# Altium schematic symbol library ACROME_Lib.SchLib: 89 symbols (part 2 of 3)
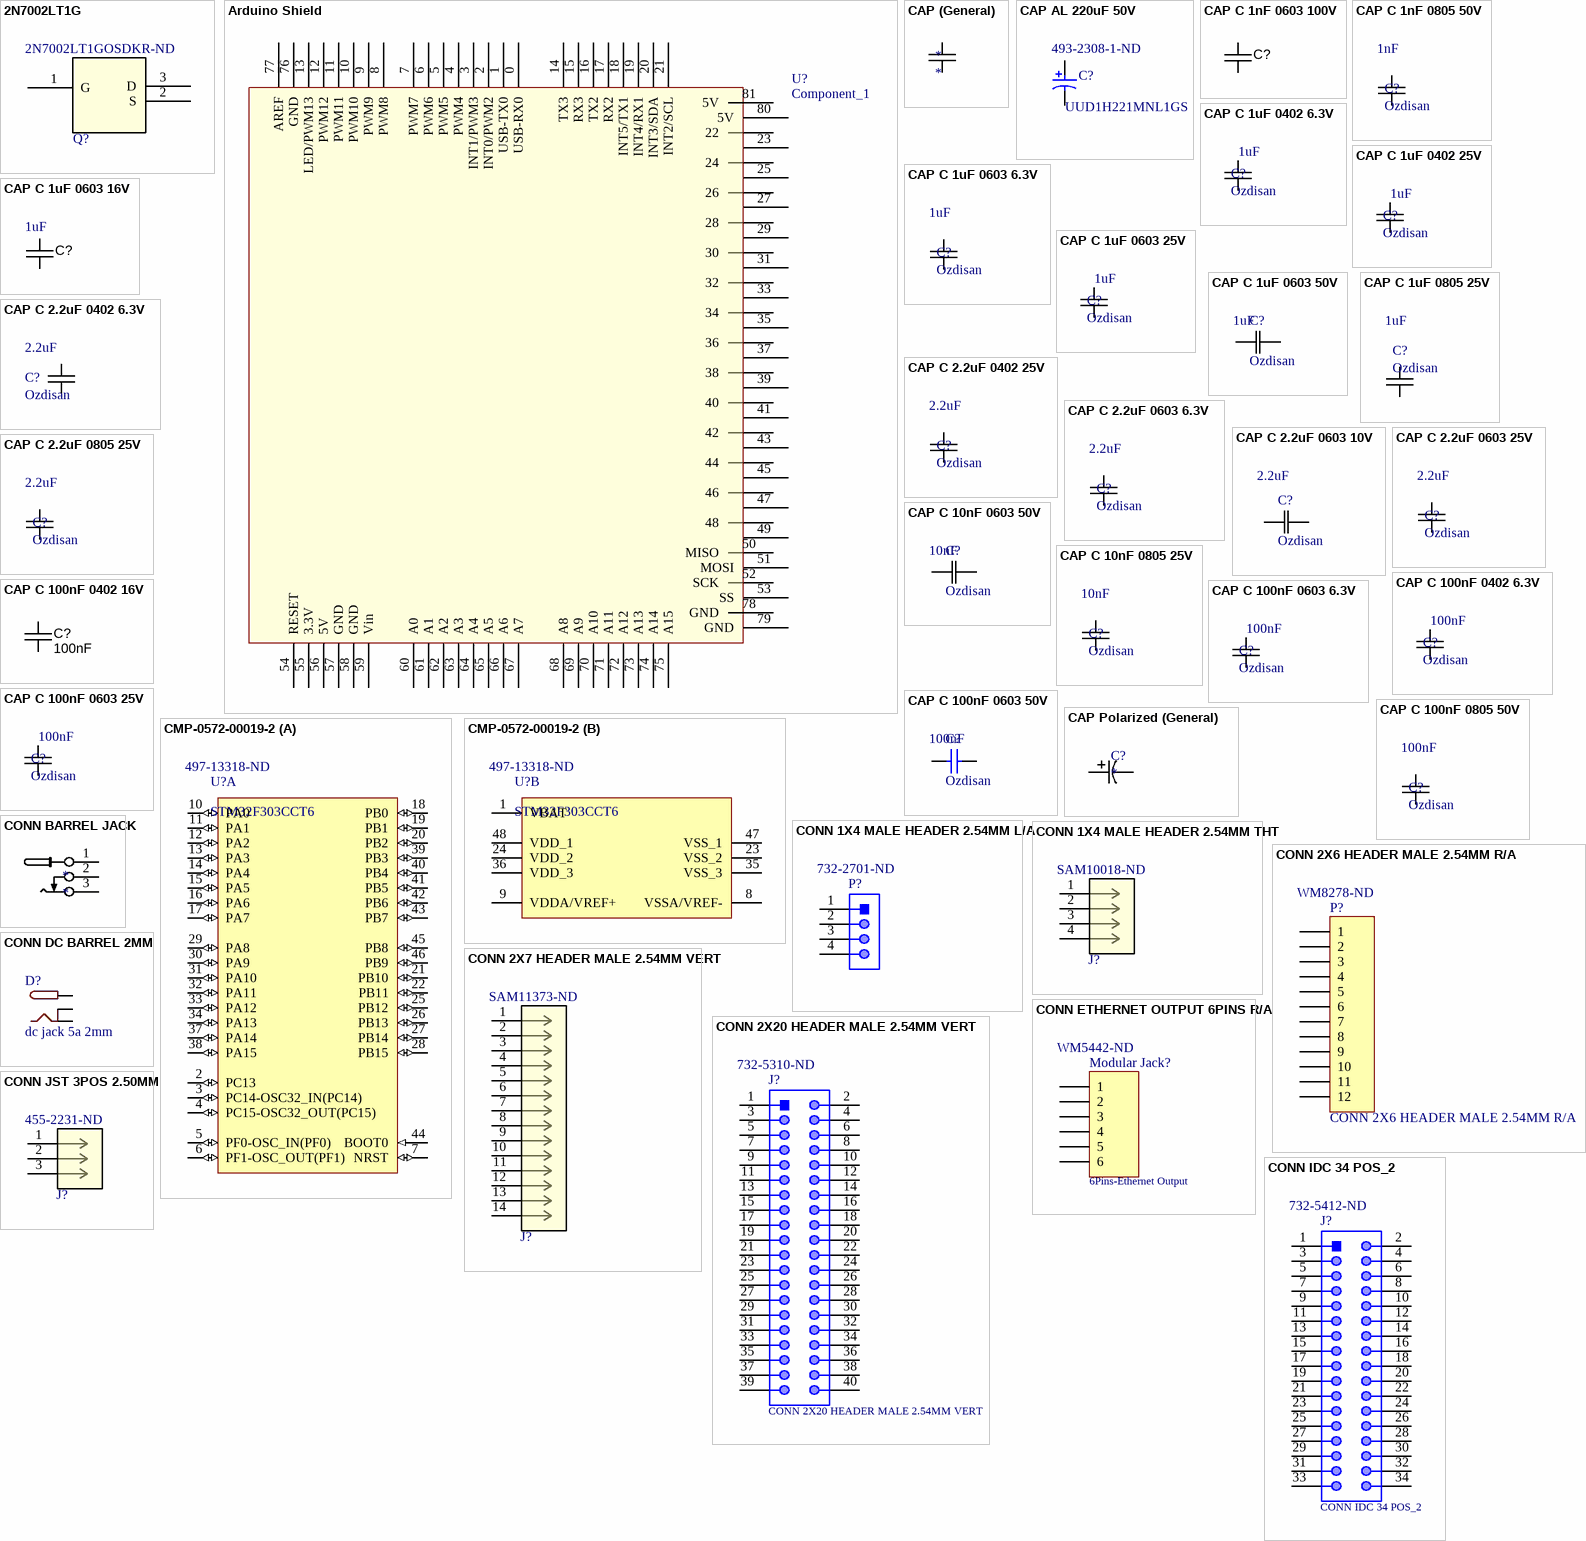
[diagram p3: symbols 2N7002LT1G to CONN JST 3POS 2.50MM]

## CMP-0572-00019-2
designator U?, comment STM32F303CCT6  Supplier Part Number 1: 497-13318-ND
MCU 32-bit STM32F ARM Cortex M4 RISC 256KB Flash 2.5V/3.3V 48-Pin LQFP Tray; Manufacturer: STMicroelectronics; Supply Voltage(Vcc) min (V): 2; Internal RAM Size (kB): 40; D/A Converter: 2x12-bit (2 Channel); FLASH Size (Prog) (kB): 256; I/Os (High Current): 37; Core: ARM Cortex-M4; Operating Frequency(F) (Processor speed) (MHz): 72; Interface: I2C,SPI,USB,CAN,IrDA,UART,USART,LIN,I2S; Frequency: 72MHz; RAM Size: 40KB; Number of Timers/Counters: 10; Oscillator Type: Internal; Number of Programmable I/O: 27; Data Bus Width: 32b; Peripherals: POR,PWM,WDT,DMA; Watchdog Timer: Yes; Max Supply Voltage: 3.6V; Min Supply Voltage: 2V; Number of ADC Channels: 39; Number of SPI Channels: 3; Number of USB Channels: 1; ComponentLink1URL: http://www.st.com/web/en/home.html; Packing: Tray; ComponentLink3Description: Package Specification; ComponentLink2URL: http://www.st.com/st-web-ui/static/active/en/resource/technical/document/datasheet/DM00058181.pdf; Mounting Technology: Surface Mount; PackageReference: LQFP48; DatasheetVersion: Rev. 6; ComponentLink2Description: Datasheet; ComponentLink3URL: http://www.st.com/st-web-ui/static/active/en/resource/technical/document/datasheet/DM00058181.pdf; PackageDescription: 48-Pin Low Profile Quad Flat Package, 7 x 7 mm Body, 0.5 mm Pitch; ComponentLink1Description: Manufacturer URL; PackageVersion: Rev. 6, 06/2013; PartNumber: STM32F303CCT6; Supplier 1: Digi-Key; Manufacturer Part Number: STM32F303CCT6; RoHS: Yes; Category: Microcontrollers; Stock 1: 993; Pricing 1: 1=5,70000, 10=5,11800, 25=4,83840, 100=4,19330, 250=3,97824, 500=3,56966, 1000=3,01056, 2500=2,86003 (USD); Case/Package: LQFP; Number of Pins: 48; Contact Plating: Gold; Min Operating Temperature: -40°C; Max Operating Temperature: 85°C; Number of I/Os: 37; Core Architecture: ARM; Packaging: Tray; Max Frequency: 72MHz; Memory Type: FLASH; Memory Size: 256KB; Package Quantity: 250; Number of I2C Channels: 2; Length: 10mm; Height: 1.45mm; Width: 7.2mm; Radiation Hardening: No; Lead Free: Lead Free; REACH SVHC: No SVHC; ComponentLink4URL: https://datasheet.ciiva.com/14666/0900766b81171360-14666656.pdf?src-supplier=RSComponents; ComponentLink4Description: https://datasheet.ciiva.com/14666/0900766b81171360-14666656.pdf?src-supplier=RSComponents; ComponentLink5URL: https://datasheet.ciiva.com/8055/1831499-8055015.pdf?src-supplier=Element14; ComponentLink5Description: https://datasheet.ciiva.com/8055/1831499-8055015.pdf?src-supplier=Element14
footprint STM-LQFP48_L (QFP, 48-Leads, Body 7x7mm, Pitch 0.5mm, IPC High Density)
footprint STM-LQFP48_N (QFP, 48-Leads, Body 7x7mm, Pitch 0.5mm, IPC Medium Density)
footprint STM-LQFP48_M (QFP, 48-Leads, Body 7x7mm, Pitch 0.5mm, IPC Low Density)
part A pins: 2 PC13 (io) "PC13/TIM1_CH1N/WKUP2,RTC_TAMP1,RTC_TS,RTC_OUT", 3 PC14-OSC32_IN(PC14) (io) "PC14-OSC32_IN(PC14)/OSC32_IN", 4 PC15-OSC32_OUT(PC15) (io) "PC15-OSC32_OUT(PC15)/OSC32_OUT", 5 PF0-OSC_IN(PF0) (io) "PF0-OSC_IN(PF0)/TIM1_CH3N,I2C2_SDA/OSC_IN", 6 PF1-OSC_OUT(PF1) (io) "PF1-OSC_OUT(PF1)/I2C2_SCL/OSC_OUT", 7 NRST (io) "Device reset input / internal reset output (active low)", 10 PA0 (io) "PA0/USART2_CTS,TIM2_CH1_ETR,TIM8_BKIN,TIM8_ETR,TSC_G1_IO1,COMP1_OUT,EVENTOUT/ADC1_IN1,COMP1_INM,RTC_TAMP2,WKUP1,COMP7_INP", 11 PA1 (io) "PA1/USART2_RTS,TIM2_CH2,TSC_G1_IO2,TIM15_CH1N,RTC_REFIN,EVENTOUT/ADC1_IN2,COMP1_INP,OPAMP1_VINP,OPAMP3_VINP", 12 PA2 (io) "PA2/USART2_TX,TIM2_CH3,TIM15_CH1,TSC_G1_IO3,COMP2_OUT,EVENTOUT/ADC1_IN3,COMP2_INM,OPAMP1_VOUT", 13 PA3 (io) "PA3/USART2_RX,TIM2_CH4,TIM15_CH2,TSC_G1_IO4,EVENTOUT/ADC1_IN4,OPAMP1_VINP,COMP2_INP,OPAMP1_VINM", 14 PA4 (io) "PA4/SPI1_NSS,SPI3_NSS,I2S3_WS,USART2_CK,TSC_G2_IO1,TIM3_CH2,EVENTOUT/ADC2_IN1,DAC1_OUT1,OPAMP4_VINP,COMP1_INM,COMP2_INM,COMP3_INM,COMP4_INM,COMP5_INM,COMP6_INM,COMP7_INM", 15 PA5 (io) "PA5/SPI1_SCK,TIM2_CH1_ETR,TSC_G2_IO2,EVENTOUT/ADC2_IN2,DAC1_OUT2,OPAMP1_VINP,OPAMP2_VINM,OPAMP3_VINP,COMP1_INM,COMP2_INM,COMP3_INM,COMP4_INM,COMP5_INM,COMP6_INM,COMP7_INM", 16 PA6 (io) "PA6/SPI1_MISO,TIM3_CH1,TIM8_BKIN,TIM1_BKIN,TIM16_CH1,COMP1_OUT,TSC_G2_IO3,EVENTOUT/ADC2_IN3,OPAMP2_VOUT", 17 PA7 (io) "PA7/SPI1_MOSI,TIM3_CH2,TIM17_CH1,TIM1_CH1N,TIM8_CH1N,TSC_G2_IO4,COMP2_OUT,EVENTOUT/ADC2_IN4,COMP2_INP,OPAMP2_VINP,OPAMP1_VINP", 18 PB0 (io) "PB0/TIM3_CH3,TIM1_CH2N,TIM8_CH2N,TSC_G3_IO2,EVENTOUT/ADC3_IN12,COMP4_INP,OPAMP3_VINP,OPAMP2_VINP", 19 PB1 (io) "PB1/TIM3_CH4,TIM1_CH3N,TIM8_CH3N,COMP4_OUT,TSC_G3_IO3,EVENTOUT/ADC3_IN1,OPAMP3_VOUT", 20 PB2 (io) "PB2/TSC_G3_IO4,EVENTOUT/ADC2_IN12,COMP4_INM,OPAMP3_VINM", 21 PB10 (io) "PB10/USART3_TX,TIM2_CH3,TSC_SYNC,EVENTOUT/COMP5_INM,OPAMP4_VINM,OPAMP3_VINM", 22 PB11 (io) "PB11/USART3_RX,TIM2_CH4,TSC_G6_IO1,EVENTOUT/COMP6_INP,OPAMP4_VINP", 25 PB12 (io) "PB12/SPI2_NSS,I2S2_WS,I2C2_SMBA,USART3_CK,TIM1_BKIN,TSC_G6_IO2,EVENTOUT/ADC4_IN3,COMP3_INM,OPAMP4_VOUT", 26 PB13 (io) "PB13/SPI2_SCK,I2S2_CK,USART3_CTS,TIM1_CH1N,TSC_G6_IO3,EVENTOUT/ADC3_IN5,COMP5_INP,OPAMP4_VINP,OPAMP3_VINP", 27 PB14 (io) "PB14/SPI2_MISO,I2S2ext_SD,USART3_RTS,TIM1_CH2N,TIM15_CH1,TSC_G6_IO4,EVENTOUT/COMP3_INP,ADC4_IN4,OPAMP2_VINP", 28 PB15 (io) "PB15/SPI2_MOSI,I2S2_SD,TIM1_CH3N,RTC_REFIN,TIM15_CH1N,TIM15_CH2,EVENTOUT/ADC4_IN5,COMP6_INM", 29 PA8 (io) "PA8/I2C2_SMBA,I2S2_MCK,USART1_CK,TIM1_CH1,TIM4_ETR,MCO,COMP3_OUT,EVENTOUT", 30 PA9 (io) "PA9/I2C2_SCL,I2S3_MCK,USART1_TX,TIM1_CH2,TIM2_CH3,TIM15_BKIN,TSC_G4_IO1,COMP5_OUT,EVENTOUT", 31 PA10 (io) "PA10/I2C2_SDA,USART1_RX,TIM1_CH3,TIM2_CH4,TIM8_BKIN,TIM17_BKIN,TSC_G4_IO2,COMP6_OUT,EVENTOUT", 32 PA11 (io) "PA11/USART1_CTS,USB_DM,CAN_RX,TIM1_CH1N,TIM1_CH4,TIM1_BKIN2,TIM4_CH1,COMP1_OUT,EVENTOUT", 33 PA12 (io) "PA12/USART1_RTS,USB_DP,CAN_TX,TIM1_CH2N,TIM1_ETR,TIM4_CH2,TIM16_CH1,COMP2_OUT,EVENTOUT", 34 PA13 (io) "PA13/USART3_CTS,TIM4_CH3,TIM16_CH1N,TSC_G4_IO3,IR_OUT,SWDIO-JTMS,EVENTOUT", 37 PA14 (io) "PA14/I2C1_SDA,USART2_TX,TIM8_CH2,TIM1_BKIN,TSC_G4_IO4,SWCLK-JTCK,EVENTOUT", 38 PA15 (io) "PA15/I2C1_SCL,SPI1_NSS,SPI3_NSS,I2S3_WS,JTDI,USART2_RX,TIM1_BKIN,TIM2_CH1_ETR,TIM8_CH1,EVENTOUT", 39 PB3 (io) "PB3/SPI3_SCK,I2S3_CK,SPI1_SCK,USART2_TX,TIM2_CH2,TIM3_ETR,TIM4_ETR,TIM8_CH1N,TSC_G5_IO1,JTDO-TRACESWO,EVENTOUT", 40 PB4 (io) "PB4/SPI3_MISO,I2S3ext_SD,SPI1_MISO,USART2_RX,TIM3_CH1,TIM16_CH1,TIM17_BKIN,TIM8_CH2N,TSC_G5_IO2,NJTRST,EVENTOUT", 41 PB5 (io) "PB5/SPI3_MOSI,SPI1_MOSI,I2S3_SD,I2C1_SMBA,USART2_CK,TIM16_BKIN,TIM3_CH2,TIM8_CH3N,TIM17_CH1,EVENTOUT", 42 PB6 (io) "PB6/I2C1_SCL,USART1_TX,TIM16_CH1N,TIM4_CH1,TIM8_CH1,TSC_G5_IO3,TIM8_ETR,TIM8_BKIN2,EVENTOUT", 43 PB7 (io) "PB7/I2C1_SDA,USART1_RX,TIM3_CH4,TIM4_CH2,TIM17_CH1N,TIM8_BKIN,TSC_G5_IO4,EVENTOUT", 44 BOOT0 (in) "Boot memory selection", 45 PB8 (io) "PB8/I2C1_SCL,CAN_RX,TIM16_CH1,TIM4_CH3,TIM8_CH2,TIM1_BKIN,TSC_SYNC,COMP1_OUT,EVENTOUT", 46 PB9 (io) "PB9/I2C1_SDA,CAN_TX,TIM17_CH1,TIM4_CH4,TIM8_CH3,IR_OUT,COMP2_OUT,EVENTOUT"
part B pins: 1 VBAT (power) "Backup power supply", 8 VSSA/VREF- (power) "Analog ground/Negative reference voltage", 9 VDDA/VREF+ (power) "Analog power supply/Positive reference voltage", 23 VSS_2 (power) "Digital power supply", 24 VDD_2 (power) "Digital power supply", 35 VSS_3 (power) "Ground", 36 VDD_3 (power) "Digital power supply", 47 VSS_1 (power) "Ground", 48 VDD_1 (power) "Digital power supply"

## CONN 1X4 MALE HEADER 2.54MM L/A
designator P?  Supplier Part Number 1: 732-2701-ND  (hidden comment: CONN 1X4 MALE HEADER 2.54MM L/A)
Connector Header Through Hole, Left Angle 4 position 0.098" (2.54mm); Part Number: 61900411021; Manufacturer: Wurth Elektronik; Working Voltage: 250VAC; Contact Resistance: 20mOhm; Number of Positions: 4; Insulation: Insulated; Insulation Resistance: 1GR; Current Rating: 3A; Voltage Rating: 250V; Connector Type: Male Pin; Position: 1x4; Operating Temperature: -40to105degC; Orientation: RightAngled; Packaging: Bag; Datasheet URL: https://katalog.we-online.de/em/datasheet/6190xx11021.pdf; Package Reference: 61900411021; Publisher: WurthElektronik; Mounting Technology: THT; Manufacturer URL: http://www.we-online.de; Pitch: 2.54mm; Gender: Male; Supplier 1: Digi-Key; Manufacturer Part Number: 61900411021; RoHS: Yes; Category: Headers and Wire Housings; Stock 1: 280; Pricing 1: 1=0,88000, 10=0,76200, 50=0,69400, 100=0,56000, 500=0,51500, 1000=0,47000 (USD); Mount: Through Hole; Color: Beige; Contact Plating: Tin; Contact Material: Copper Alloy,Copper; Housing Material: Nylon; Min Operating Temperature: -40°C; Max Operating Temperature: 105°C; Termination: Through Hole; Package Quantity: 1000; Number of Rows: 1; Fastening Type: Friction; Contact Gender: Male; Number of Contacts: 4; Length: 10.16mm; Height: 3.3mm; Contact Mating Length: 0.3inch; Width: 10.2mm; REACH SVHC: Unknown; Flammability Rating: UL94 V-0; ComponentLink1URL: https://datasheet.ciiva.com/738/6190xx11021-738580.pdf?src-supplier=Digi-Key; ComponentLink1Description: https://datasheet.ciiva.com/738/6190xx11021-738580.pdf?src-supplier=Digi-Key; ComponentLink2URL: https://datasheet.ciiva.com/48700/001088231-da-01-en-wr-wtb-2-54mm-61900411021-48700570.pdf?src-supplier=Conrad; ComponentLink2Description: https://datasheet.ciiva.com/48700/001088231-da-01-en-wr-wtb-2-54mm-61900411021-48700570.pdf?src-supplier=Conrad
footprint 61900411021 (2.54mm Male Left Angled Header Bottom Locking, 4p)
pins: 1, 2, 3, 4

## CONN 1X4 MALE HEADER 2.54MM THT
designator J?  Supplier Part Number 1: SAM10018-ND  (hidden comment: CONN 1X4 MALE HEADER 2.54MM THT)
Connector Header Through Hole, Vertical 4 position 0.098" (2.54mm); Manufacturer_Part_Number: SSW-104-01-F-S; Manufacturer: Samtec; Vendor: Samtec Inc; Built_By: EMA_UL_Team; Number of Contacts: 4; Gender: Female; Max Current Rating: 6.9A; Contact Resistance: 10mR; Max Voltage Rating (AC): 550V; Mating Cycles: 100; Copyright: Copyright (C) 2018 Accelerated Designs. All rights reserved; RefDes: RefDes; Type: DEV; Value: Value; Supplier 1: Digi-Key; Manufacturer Part Number: SSW-104-01-F-S; RoHS: Yes; Category: Headers and Wire Housings; Stock 1: 984; Pricing 1: 1=0,74000, 10=0,65300, 100=0,56320, 500=0,46080, 1000=0,40960, 5000=0,35840, 10000=0,34048 (USD); Contact Plating: Gold; Color: Black; Contact Material: Bronze; Housing Material: Polymer; Housing Color: Black; Min Operating Temperature: -55°C; Max Operating Temperature: 125°C; Number of Rows: 1; Termination: Solder; Packaging: Bulk; Orientation: Straight; Length: 10.67mm; Pitch: 2.54mm; Depth: 2.41mm; Radiation Hardening: No; ComponentLink1URL: http://components.arrow.com/part/dataview/0323_00788230?src-supplier=Arrow+Europe; ComponentLink1Description: http://components.arrow.com/part/dataview/0323_00788230?src-supplier=Arrow+Europe; ComponentLink2URL: ftp://ftp.samtec.com/webfiles/PDF/SSQ_TH.PDF?src-supplier=Avnet+Europe; ComponentLink2Description: ftp://ftp.samtec.com/webfiles/PDF/SSQ_TH.PDF?src-supplier=Avnet+Europe; ComponentLink3URL: ftp://ftp.samtec.com/webfiles/PDF/SSQ_TH.PDF?src-supplier=Avnet; ComponentLink3Description: ftp://ftp.samtec.com/webfiles/PDF/SSQ_TH.PDF?src-supplier=Avnet; ComponentLink4URL: http://suddendocs.samtec.com/catalog_english/ssw_th.pdf?src-supplier=Digi-Key; ComponentLink4Description: http://suddendocs.samtec.com/catalog_english/ssw_th.pdf?src-supplier=Digi-Key
footprint CON4_1X4_TU_SSQ
pins: 1, 2, 3, 4

## CONN 2X6 HEADER MALE 2.54MM R/A
designator P?  Supplier Part Number 1: WM8278-ND
Connector Shrouded Header Through Hole, Right Angle 12 position 0.098" (2.54mm); Manufacturer: Molex; Manufacturer Part Number: 0901303212; Number of Positions: 12; Max Voltage Rating (AC): 350V; Connector Type: Male Pin; Row Spacing: 0.1inch; LatestRevisionDate: 17-Jul-2002; LatestRevisionNote: Re-released for DXP Platform.; Publisher: Altium Limited; Supplier 1: Digi-Key; RoHS: Yes; Category: Headers and Wire Housings; Stock 1: 1440; Pricing 1: 1=3,79000, 10=3,63900, 100=3,03260, 500=2,57772, 1000=2,19864, 5000=1,97119 (USD); Mount: Through Hole; Housing Material: Polyester; Contact Material: Brass; Color: Black; Contact Plating: Gold; Housing Color: Black; Min Operating Temperature: -55°C; Max Operating Temperature: 125°C; Packaging: Tray; Number of Rows: 2; Orientation: Right Angle; Termination: Solder; Max Voltage Rating (DC): 350V; Number of Contacts: 12; Fastening Type: Latch; Length: 17.96mm; Pitch: 2.54mm; Depth: 9.75mm; Contact Mating Length: 0.266inch; ComponentLink1URL: https://datasheet.ciiva.com/6813/901301114-sd-6813987.pdf?src-supplier=Digi-Key; ComponentLink1Description: https://datasheet.ciiva.com/6813/901301114-sd-6813987.pdf?src-supplier=Digi-Key; ComponentLink2URL: https://datasheet.ciiva.com/3936/300140901303212-pcb-headers-3936224.pdf?src-supplier=Arrow; ComponentLink2Description: https://datasheet.ciiva.com/3936/300140901303212-pcb-headers-3936224.pdf?src-supplier=Arrow
footprint 12 PIN IDC
pins: 1, 2, 3, 4, 5, 6, 7, 8, 9, 10, 11, 12

## CONN 2X7 HEADER MALE 2.54MM VERT
designator J?  Supplier Part Number 1: SAM11373-ND  (hidden comment: CONN 2X7 HEADER MALE 2.54MM VERT)
Connector Header Through Hole, Vertical 14 position 0.098" (2.54mm); Manufacturer_Part_Number: HTSW-107-07-T-D; Manufacturer: Samtec; Vendor: Samtec Inc; Built_By: EMA_UL_Team; Number of Contacts: 14; Max Current Rating: 7.6A; Max Voltage Rating (AC): 550V; Copyright: Copyright (C) 2018 Accelerated Designs. All rights reserved; RefDes: RefDes; Type: DEV; Value: Value; Supplier 1: Digi-Key; Manufacturer Part Number: HTSW-107-07-T-D; RoHS: Yes; Category: Headers and Wire Housings; Stock 1: 1699; Pricing 1: 1=0,86000, 10=0,75500, 100=0,65120, 500=0,53280, 1000=0,47360, 5000=0,41440, 10000=0,39368 (USD); Contact Plating: Tin; Contact Material: Bronze; Housing Color: Natural; Housing Material: Polymer; Min Operating Temperature: -55°C; Max Operating Temperature: 105°C; Gender: Male; Number of Rows: 2; Termination: Solder; Packaging: Bulk; Orientation: Straight; Length: 17.78mm; Pitch: 2.54mm; Depth: 5.02mm; REACH SVHC: No SVHC; ComponentLink1URL: http://components.arrow.com/part/dataview/0323_01322925?src-supplier=Arrow+Europe; ComponentLink1Description: http://components.arrow.com/part/dataview/0323_01322925?src-supplier=Arrow+Europe; ComponentLink2URL: http://www.farnell.com/datasheets/1992055.pdf?src-supplier=Farnell; ComponentLink2Description: http://www.farnell.com/datasheets/1992055.pdf?src-supplier=Farnell; ComponentLink3URL: http://suddendocs.samtec.com/prints/htsw-xxx-xx-xxx-x-xx-xx-xx-mkt.pdf?src-supplier=Digi-Key; ComponentLink3Description: http://suddendocs.samtec.com/prints/htsw-xxx-xx-xxx-x-xx-xx-xx-mkt.pdf?src-supplier=Digi-Key; ComponentLink4URL: https://www.samtec.com/ftppub/pdf/htsw_th.pdf?src-supplier=Avnet; ComponentLink4Description: https://www.samtec.com/ftppub/pdf/htsw_th.pdf?src-supplier=Avnet
footprint CON14_2X7_TU_TSW
pins: 1, 2, 3, 4, 5, 6, 7, 8, 9, 10, 11, 12, 13, 14

## CONN 2X20 HEADER MALE 2.54MM VERT
designator J?  Supplier Part Number 1: 732-5310-ND
Connector Header Through Hole, Vertical 40 position 0.098" (2.54mm); Manufacturer: Wurth Elektronik; Part Number: 61304021121; Contact Resistance: 20mOhm; Row Number: Dual; Pin Number: 40; Withstanding Voltage: 500VAC; Rated Current: 3A; Working Voltage: 250VAC; Connector Type: Male Pin; Row Spacing: 0.1inch; Operating Temperature: -40to105degC; Manufacturer URL: http://www.we-online.de; Orientation: Vertical; Pitch: 2.54mm; Datasheet URL: https://katalog.we-online.de/em/datasheet/6130xx21121.pdf; Package Reference: 61304021121; Gender: Male; Packaging: Bag; Mounting Technology: THT; Publisher: WurthElektronik; Supplier 1: Digi-Key; Manufacturer Part Number: 61304021121; RoHS: Yes; Category: Connectors; Mount: Through Hole; Color: Black; Contact Plating: Gold; Contact Material: Copper; Number of Positions: 40; Termination: Solder; Number of Contacts: 40; Number of Rows: 2; Contact Mating Length: 0.236inch; REACH SVHC: Unknown; ComponentLink1URL: http://www.farnell.com/datasheets/1442180.pdf?src-supplier=Farnell; ComponentLink1Description: http://www.farnell.com/datasheets/1442180.pdf?src-supplier=Farnell; ComponentLink2URL: http://www.farnell.com/datasheets/1442180.pdf?src-supplier=Element14; ComponentLink2Description: http://www.farnell.com/datasheets/1442180.pdf?src-supplier=Element14; ComponentLink3URL: http://www.farnell.com/datasheets/1442180.pdf?src-supplier=Newark; ComponentLink3Description: http://www.farnell.com/datasheets/1442180.pdf?src-supplier=Newark; ComponentLink4URL: https://katalog.we-online.de/em/datasheet/6130xx21121.pdf?src-supplier=Digi-Key; ComponentLink4Description: https://katalog.we-online.de/em/datasheet/6130xx21121.pdf?src-supplier=Digi-Key
footprint 61304021121
pins: 1, 2, 3, 4, 5, 6, 7, 8, 9, 10, 11, 12, 13, 14, 15, 16, 17, 18, 19, 20, 21, 22, 23, 24, 25, 26, 27, 28, 29, 30, 31, 32, 33, 34, 35, 36, 37, 38, 39, 40

## CONN BARREL JACK
designator *
footprint Barrel_Jack
pins: 1 POS, 2 NC, 3 NEG

## CONN DC BARREL 2MM
designator D?, comment dc jack 5a 2mm
footprint dcbarel (https://www.cui.com/product/resource/3dmodel/pj-102bh)
pins: 1 PWR, 2, 3

## CONN ETHERNET OUTPUT 6PINS R/A
designator Modular Jack?, comment 6Pins-Ethernet Output  Supplier Part Number 1: WM5442-ND
Connector Mod Jack RJ11 6P6C R/A Unshielded; Manufacturer: Molex; Manufacturer Part Number: 43202-6101; Number of Ports: 1; Number of Contacts: 6; Contact Resistance: 10mR; Voltage Rating (DC): 125V; Gender: Female; Current Rating: 1.5A; Pitch: 2.54mm; Supplier 1: Digi-Key; RoHS: Yes; Category: Modular / Ethernet Connectors; Mount: Through Hole; Housing Color: Black; Housing Material: Thermoplastic; Contact Plating: Gold; Contact Material: Bronze; Number of Terminals: 6; Color: Black; Min Operating Temperature: -40°C; Max Operating Temperature: 85°C; Orientation: Right Angle; Termination: Through Hole; Number of Positions Loaded: 6; Shielding: Unshielded; Packaging: Tray; Package Quantity: 2000; Number of Positions: 6; Voltage Rating: 125V; Max Current Rating: 1.5A; Length: 13.21mm; Height: 11.58mm; Depth: 18.03mm; Lead Free: Lead Free; Flammability Rating: UL94 V-0; REACH SVHC: Unknown; ComponentLink1URL: https://datasheet.ciiva.com/16076/3300432026101-modular-jacks-plug-16076817.pdf?src-supplier=Onlinecomponents.com; ComponentLink1Description: https://datasheet.ciiva.com/16076/3300432026101-modular-jacks-plug-16076817.pdf?src-supplier=Onlinecomponents.com; ComponentLink2URL: https://datasheet.ciiva.com/4561/0432026101-modular-jacks-plug-168329-4561604.pdf?src-supplier=Mouser; ComponentLink2Description: https://datasheet.ciiva.com/4561/0432026101-modular-jacks-plug-168329-4561604.pdf?src-supplier=Mouser; ComponentLink3URL: https://datasheet.ciiva.com/19460/1970615-19460580.pdf?src-supplier=Jameco; ComponentLink3Description: https://datasheet.ciiva.com/19460/1970615-19460580.pdf?src-supplier=Jameco; ComponentLink4URL: https://datasheet.ciiva.com/19472/2036891-19472756.pdf?src-supplier=Jameco; ComponentLink4Description: https://datasheet.ciiva.com/19472/2036891-19472756.pdf?src-supplier=Jameco; ComponentLink5URL: https://datasheet.ciiva.com/1108/1627460-1108119.pdf?src-supplier=Newark; ComponentLink5Description: https://datasheet.ciiva.com/1108/1627460-1108119.pdf?src-supplier=Newark; ComponentLink6URL: https://datasheet.ciiva.com/30074/122810432026101-modular-jacks-plug-30074217.pdf?src-supplier=Onlinecomponents.com; ComponentLink6Description: https://datasheet.ciiva.com/30074/122810432026101-modular-jacks-plug-30074217.pdf?src-supplier=Onlinecomponents.com; ComponentLink7URL: https://datasheet.ciiva.com/26945/getdatasheetpartid-791591-26945340.pdf?src-supplier=Verical; ComponentLink7Description: https://datasheet.ciiva.com/26945/getdatasheetpartid-791591-26945340.pdf?src-supplier=Verical; ComponentLink8URL: https://datasheet.ciiva.com/1107/1870040-1107453.pdf?src-supplier=Element14; ComponentLink8Description: https://datasheet.ciiva.com/1107/1870040-1107453.pdf?src-supplier=Element14
footprint 1PortRJ11
pins: 1, 2, 3, 4, 5, 6

## CONN IDC 34 POS_2
designator J?  Supplier Part Number 1: 732-5412-ND
Connector Shrouded Header Through Hole, Right Angle 34 position 0.098" (2.54mm); Manufacturer: Wurth Elektronik; Part Number: 61203421721; Pin Number: 34; Working Voltage: 250VAC; Withstanding Voltage: 500VAC; Contact Resistance: 20mOhm; Gender: Male; Connector Type: Male Pin; Row Spacing: 0.1inch; Published Date: August2018; Datasheet URL: https://katalog.we-online.de/em/datasheet/6120xx21721.pdf; Packaging: Tray; Mounting Technology: THT; Publisher: WurthElektronik; Orientation: Angled; Manufacturer URL: http://www.we-online.de; Pitch: 2.54mm; Operating Temperature: -40to125degC; Package Reference: 61203421721; Supplier 1: Digi-Key; Manufacturer Part Number: 61203421721; RoHS: Yes; Category: Connectors; Pricing 1: 100=1,38300 (USD); Mount: Through Hole; Contact Plating: Gold; Contact Material: Copper; Color: Black; Number of Contacts: 34; Number of Rows: 2; Number of Positions: 34; Termination: Solder; REACH SVHC: Unknown; ComponentLink1URL: https://katalog.we-online.de/em/datasheet/6120xx21721.pdf?src-supplier=Digi-Key; ComponentLink1Description: https://katalog.we-online.de/em/datasheet/6120xx21721.pdf?src-supplier=Digi-Key
footprint 61203421721 (34 pins, right angled, gold plating)
pins: 1, 2, 3, 4, 5, 6, 7, 8, 9, 10, 11, 12, 13, 14, 15, 16, 17, 18, 19, 20, 21, 22, 23, 24, 25, 26, 27, 28, 29, 30, 31, 32, 33, 34

## CONN JST 3POS 2.50MM
designator J?, comment Supplier Part Number 1: 455-2231-ND  (hidden comment: JST 3POS 2.50MM)
Connector Header Through Hole, Right Angle 3 position 0.098" (2.50mm); Manufacturer_Part_Number: B3B-XH-AM(LF)(SN); Built_By: EMA_Cory; Number of Positions: 3; Connector Type: Male Pin; Gender: Male; Contact Resistance: 20mR; Max Current Rating: 3A; Max Voltage Rating (AC): 250V; Pitch: 0.098inch; Vendor: JST; Copyright: Copyright (C) 2018 Accelerated Designs. All rights reserved; RefDes: RefDes; Type: DEV; Value: Value; Supplier 1: Digi-Key; Manufacturer: JST; Manufacturer Part Number: B3B-XH-AM(LF)(SN); RoHS: Yes; Category: Headers and Wire Housings; Mount: Through Hole; Contact Plating: Tin,Copper,Lead; Color: Natural; Contact Material: Brass; Housing Color: White; Housing Material: Polyamide; Min Operating Temperature: -25°C; Max Operating Temperature: 85°C; Number of Rows: 1; Packaging: Bulk; Termination: Press-Fit; Orientation: Straight; Fastening Type: Detent; Length: 9.9mm; Depth: 5.75mm; Lead Free: Lead Free; ComponentLink1URL: https://datasheet.ciiva.com/26894/getdatasheetpartid-639773-26894456.pdf?src-supplier=Verical; ComponentLink1Description: https://datasheet.ciiva.com/26894/getdatasheetpartid-639773-26894456.pdf?src-supplier=Verical
footprint CONN_B3B-XH-AM(L
pins: 1, 2, 3

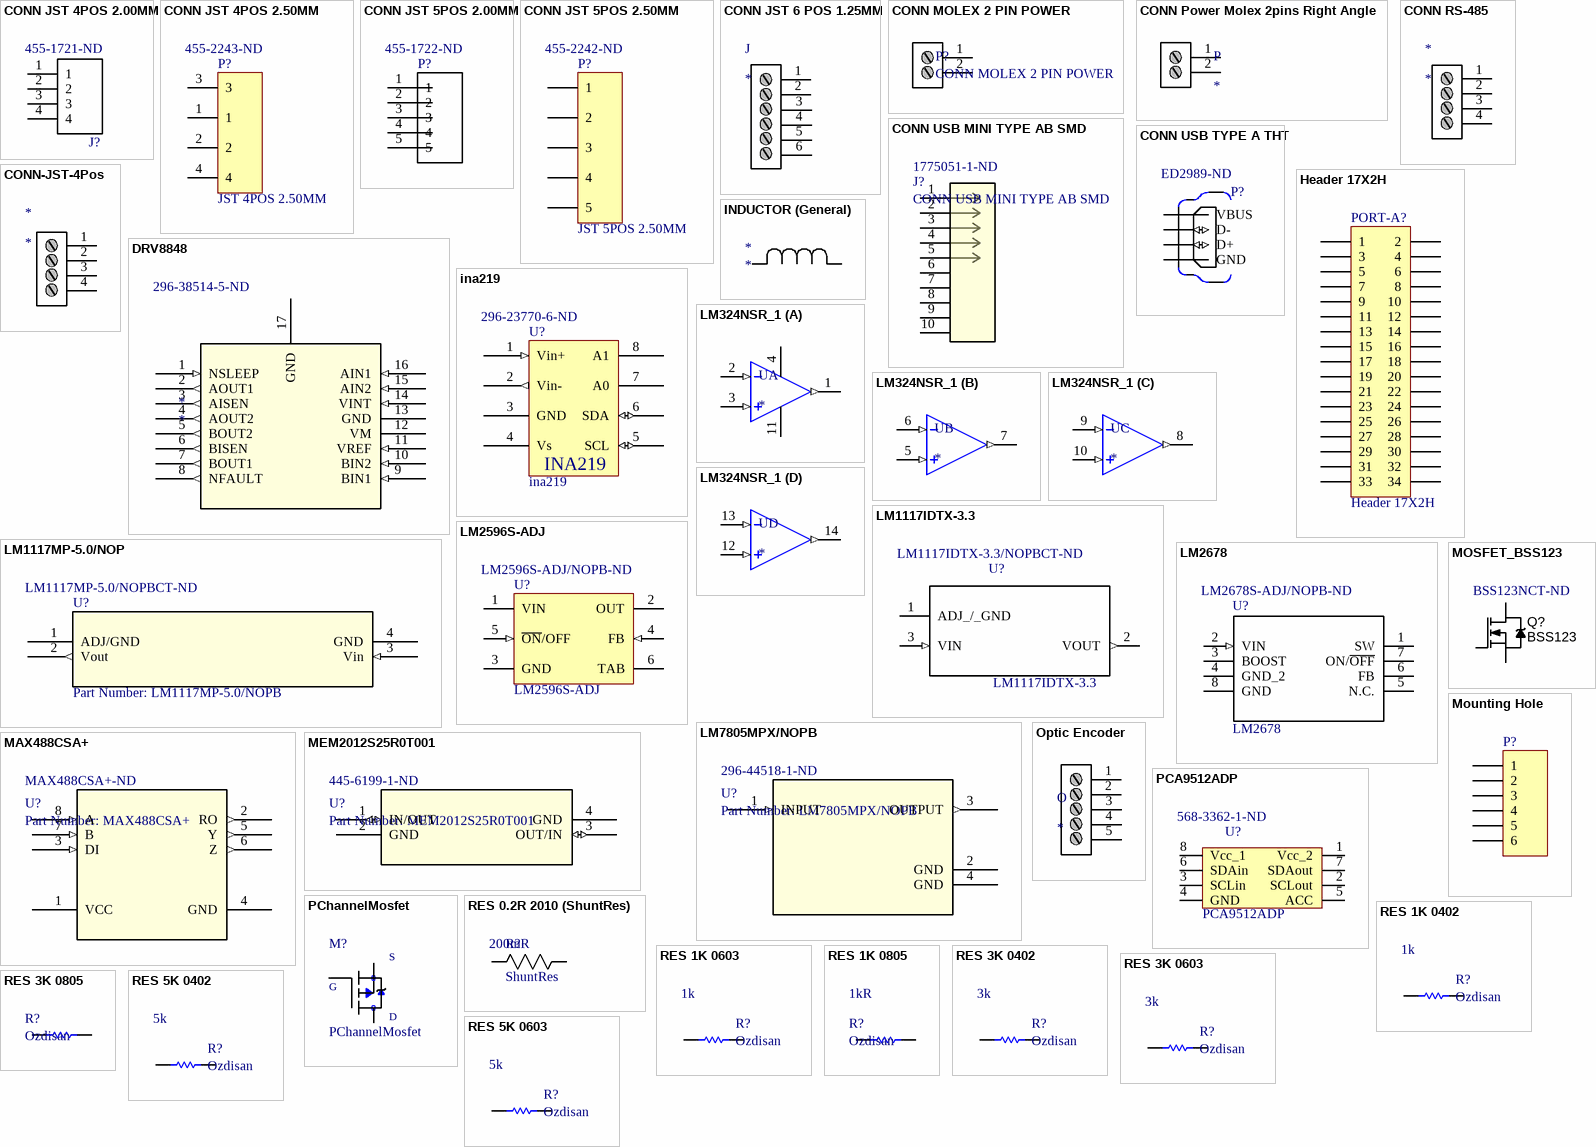
[diagram p1: symbols CONN JST 4POS 2.00MM to RES 5K 0603]

## CONN JST 4POS 2.00MM
designator J?, comment Supplier Part Number 1: 455-1721-ND  (hidden comment: JST 4pos 2.00mm)
Connector Header Through Hole, Right Angle 4 position 0.098" (2.00mm); Manufacturer Part Number: S4B-PH-K-S(LF)(SN); MP: S4B-PH-K-S_LF__SN_; MF: JST Sales; Current Rating: 2A; Number of Positions: 4; Insulation Resistance: 1GR; Connector Type: Male Pin; Working Voltage: 100V; Gender: Male; Contact Resistance: 10mR; Pitch: 2mm; Digi-Key_Purchase_URL: https://www.digikey.com/product-detail/en/jst-sales-america-inc/S4B-PH-K-S_LF__SN_/455-1721-ND/926628?utm_source=snapeda&utm_medium=aggregator&utm_campaign=symbol; Package: None; SnapEDA_Link: https://www.snapeda.com/parts/S4B-PH-K-S%28LF%29%28SN%29/JST%20Sales%20America%20Inc./view-part/591324/?ref=snap; Digi-Key_Part_Number: 455-1721-ND; Value: *; Supplier 1: Digi-Key; Manufacturer: JST; RoHS: Yes; Category: Headers and Wire Housings; Mount: Through Hole; Number of Pins: 4; Contact Material: Tin,Brass,Bronze; Housing Color: Natural; Contact Plating: Tin; Color: Natural,White; Min Operating Temperature: -25°C; Max Operating Temperature: 85°C; Orientation: Right Angle; Termination: Solder; Fastening Type: Detent; Number of Contacts: 4; Number of Poles: 4; Number of Rows: 1; Voltage Rating (AC): 100V; Voltage Rating: 100V; Packaging: Bulk; Length: 9.9mm; Height: 9.4mm; Width: 4.5mm; Contact Mating Length: 0.13inch; Lead Pitch: 2mm; Flammability Rating: UL94 V-0; REACH SVHC: No SVHC; Lead Free: Lead Free; ComponentLink1URL: https://datasheet.ciiva.com/11747/0900766b8082653c-11747869.pdf?src-supplier=RSComponents; ComponentLink1Description: https://datasheet.ciiva.com/11747/0900766b8082653c-11747869.pdf?src-supplier=RSComponents; ComponentLink2URL: https://datasheet.ciiva.com/712/eph-712478.pdf?src-supplier=Digi-Key; ComponentLink2Description: https://datasheet.ciiva.com/712/eph-712478.pdf?src-supplier=Digi-Key
footprint *JST_S4B-PH-K-S(LF)(SN)
pins: 1, 2, 3, 4

## CONN JST 4POS 2.50MM
designator P?, comment JST 4POS 2.50MM  Supplier Part Number 1: 455-2243-ND
Connector Header Through Hole, Right Angle 4 position 0.098" (2.50mm); Manufacturer Part Number: S4B-XH-A(LF)(SN); Current Rating: 3A; Number of Positions: 4; Insulation Resistance: 1GR; Gender: Male; Max Voltage Rating (AC): 250V; Contact Resistance: 20mR; Connector Type: Male Pin; Pitch: 2.5mm; Wire/Cable Gauge: 22AWG; Supplier 1: Digi-Key; Manufacturer: JST; RoHS: Yes; Stock 1: 17774; Pricing 1: 1 = 0,27000, 10 = 0,25700, 100 = 0,17850, 500 = 0,15100, 1000 = 0,12355, 5000 = 0,10982, 10000 = 0,09953 (USD); Mount: Through Hole; Contact Material: Brass; Housing Color: White; Color: Natural; Contact Plating: Tin,Lead,Copper; Housing Material: Polyamide; Min Operating Temperature: -25°C; Max Operating Temperature: 85°C; Termination: Press-Fit; Number of Contacts: 4; Orientation: Right Angle; Package Quantity: 500; Number of Rows: 1; Packaging: Bulk; Voltage Rating: 250V; Voltage Rating (AC): 250V; Max Current Rating: 3A; Length: 12.4mm; Depth: 11.5mm; Lead Pitch: 2.5mm; Lead Free: Lead Free; REACH SVHC: No SVHC; ComponentLink1URL: https://datasheet.ciiva.com/726/exh-726400.pdf?src-supplier=Digi-Key; ComponentLink1Description: https://datasheet.ciiva.com/726/exh-726400.pdf?src-supplier=Digi-Key; ComponentLink2URL: https://datasheet.ciiva.com/26924/getdatasheetpartid-449045-26924078.pdf?src-supplier=Verical; ComponentLink2Description: https://datasheet.ciiva.com/26924/getdatasheetpartid-449045-26924078.pdf?src-supplier=Verical; ComponentLink3URL: https://datasheet.ciiva.com/8052/5448-8052236.pdf?src-supplier=Element14; ComponentLink3Description: https://datasheet.ciiva.com/8052/5448-8052236.pdf?src-supplier=Element14
footprint JST 4pos (Connector Header Through Hole, Right Angle 4 position 0.098" (2.50mm))
pins: 1, 2, 3, 4

## CONN JST 5POS 2.00MM
designator P?, comment Supplier Part Number 1: 455-1722-ND  (hidden comment: JST 5POS 2.00MM)
Connector Header Through Hole, Right Angle 5 position 0.098" (2.00mm); Manufacturer Part Number: S5B-PH-K-S(LF)(SN); MF: JST Sales; MP: S5B-PH-K-S_LF__SN_; Current Rating: 2A; Gender: Male; Contact Resistance: 10mR; Voltage Rating (AC): 100V; Number of Poles: 5; Insulation Resistance: 1GR; Connector Type: Header,Male Pin; Pitch: 2mm; Package: None; Digi-Key_Purchase_URL: https://www.digikey.com/product-detail/en/jst-sales-america-inc/S5B-PH-K-S_LF__SN_/455-1722-ND/926629?utm_source=snapeda&utm_medium=aggregator&utm_campaign=symbol; Digi-Key_Part_Number: 455-1722-ND; SnapEDA_Link: https://www.snapeda.com/parts/S5B-PH-K-S%28LF%29%28SN%29/JST%20Sales%20America%20Inc./view-part/454535/?ref=snap; Value: *; Supplier 1: Digi-Key; Manufacturer: JST; RoHS: Yes; Category: Headers and Wire Housings; Stock 1: 4477; Pricing 1: 1=0,27000, 10=0,25500, 100=0,17680, 500=0,14964, 1000=0,12243, 5000=0,10883, 10000=0,09863 (USD); Mount: Through Hole; Number of Pins: 5; Contact Material: Brass,Tin,Bronze; Housing Color: Natural; Color: White; Contact Plating: Tin; Contact Shape: Square; Insulation Material: Nylon; Insulation Color: Natural; Min Operating Temperature: -25°C; Max Operating Temperature: 85°C; Number of Rows: 1; Packaging: Bulk; Voltage Rating: 100V; Orientation: Right Angle; Number of Positions: 5; Termination: Solder; Fastening Type: Detent; Number of Contacts: 5; Working Voltage: 100V; Length: 11.9mm; Height: 9.4mm; Width: 4.5mm; Lead Pitch: 2mm; Contact Mating Length: 0.13inch; Flammability Rating: UL94 V-0; Lead Free: Lead Free; REACH SVHC: No SVHC; ComponentLink1URL: https://datasheet.ciiva.com/712/eph-712513.pdf?src-supplier=Digi-Key; ComponentLink1Description: https://datasheet.ciiva.com/712/eph-712513.pdf?src-supplier=Digi-Key; ComponentLink2URL: https://datasheet.ciiva.com/20207/523648-20207253.pdf?src-supplier=Rapid+Electronics; ComponentLink2Description: https://datasheet.ciiva.com/20207/523648-20207253.pdf?src-supplier=Rapid+Electronics; ComponentLink3URL: https://datasheet.ciiva.com/43492/740308-da-01-en-stiftleiste-gewinkelt-5-pol-rm2-0-43492005.pdf?src-supplier=Conrad; ComponentLink3Description: https://datasheet.ciiva.com/43492/740308-da-01-en-stiftleiste-gewinkelt-5-pol-rm2-0-43492005.pdf?src-supplier=Conrad
footprint *JST_S5B-PH-K-S(LF)(SN)
pins: 1, 2, 3, 4, 5

## CONN JST 5POS 2.50MM
designator P?, comment JST 5POS 2.50MM  Supplier Part Number 1: 455-2242-ND
Connector Header Through Hole, Right Angle 5 position 0.098" (2.50mm); Manufacturer Part Number: S5B-XH-A(LF)(SN); Current Rating: 3A; Voltage Rating: 250V; Connector Type: Header,Male Pin; Number of Positions: 5; Insulation Resistance: 1GR; Contact Resistance: 10mR; Pitch: 2.5mm; Wire/Cable Gauge: 22AWG; Supplier 1: Digi-Key; Manufacturer: JST; RoHS: Yes; Mount: Through Hole; Contact Material: Brass; Color: Natural; Contact Shape: Square; Insulation Material: Nylon; Insulation Color: Natural; Contact Plating: Tin,Lead; Min Operating Temperature: -25°C; Max Operating Temperature: 85°C; Packaging: Bulk; Orientation: Right Angle; Termination: Solder; Fastening Type: Detent; Number of Contacts: 5; Number of Rows: 1; Voltage Rating (AC): 250V; Lead Pitch: 2.5mm; Flammability Rating: UL94 V-0; Lead Free: Lead Free; REACH SVHC: No SVHC; ComponentLink1URL: https://datasheet.ciiva.com/16484/jst20s6b-xh-a-1-lf-sn-16484585.pdf?src-supplier=Future+Electronics; ComponentLink1Description: https://datasheet.ciiva.com/16484/jst20s6b-xh-a-1-lf-sn-16484585.pdf?src-supplier=Future+Electronics; ComponentLink2URL: https://datasheet.ciiva.com/20207/523653-20207190.pdf?src-supplier=Rapid+Electronics; ComponentLink2Description: https://datasheet.ciiva.com/20207/523653-20207190.pdf?src-supplier=Rapid+Electronics; ComponentLink3URL: https://datasheet.ciiva.com/8052/5448-8052216.pdf?src-supplier=Element14; ComponentLink3Description: https://datasheet.ciiva.com/8052/5448-8052216.pdf?src-supplier=Element14; ComponentLink4URL: https://datasheet.ciiva.com/726/exh-726399.pdf?src-supplier=Digi-Key; ComponentLink4Description: https://datasheet.ciiva.com/726/exh-726399.pdf?src-supplier=Digi-Key
footprint JST 5pos (Connector Header Through Hole, Right Angle 5 position 0.098" (2.50mm))
pins: 1, 2, 3, 4, 5

## CONN JST 6 POS 1.25MM
designator J
JST Connector 6 pins
footprint CONN JST 6 PİNS
pins: 1, 2, 3, 4 42, 5, 6

## CONN MOLEX 2 PIN POWER
designator P?
Connector Molex 2pin Power
footprint molex_conn_2pin (436500215)
pins: 1, 2

## CONN Power Molex 2pins Right Angle
designator P
CONN Power Molex 2pins Right Angle-430450200
footprint CONN Power Molex 2pins Right Angle
pins: 1, 2

## CONN RS-485
designator *
footprint CONN RS-485
pins: 1, 2, 3, 4

## CONN USB MINI TYPE AB SMD
designator J?  Supplier Part Number 1: 1775051-1-ND
Conn Mini USB 2.0 Type AB RCP 5 POS Solder RA SMD 5 Terminal 1 Port T/R; TE_Part_Number: 1775051-1; ROWS/CONFIG: 1; PITCH(MM): 0.8; POSITIONS: 5; Vendor: TE Connectivity; Plating: Copper; Connector Type: Receptacle; Contact Current Rating: 1A; Circuit Application: Power; Connector System: Cable-to-Board; Pitch: 0.8mm; PRODUCT: Connector; Type: DEV; Manufacturer_Part_Number: 1775051-1; Copyright: Copyright (C) 2018 Accelerated Designs. All rights reserved; Datasheet: https://www.te.com/commerce/DocumentDelivery/DDEController?Action=showdoc&DocId=Customer+Drawing%7F1775051%7FA1%7Fpdf%7FEnglish%7FENG_CD_1775051_A1__.pdf%7F1775051-1; RefDes: RefDes; Value: Value; Supplier 1: Digi-Key; Manufacturer: TE Connectivity; Manufacturer Part Number: 1775051-1; RoHS: Yes; Category: Connectors; Mount: Surface Mount,Horizontal; Housing Color: Black; Housing Material: Thermoplastic; Number of Terminals: 5; Color: Grey; Contact Material: Bronze; Contact Plating: Gold; Min Operating Temperature: -20°C; Max Operating Temperature: 60°C; Number of Contacts: 5; Number of Positions: 5; Number of Ports: 1; Termination: SMD/SMT; Features: Shielded; Orientation: Right Angle; Package Quantity: 700; Packaging: Tape and Reel; Gender: Receptacle; Length: 9.9mm; Depth: 9mm; ELV: Compliant; Flammability Rating: UL94 V-0; ComponentLink1URL: https://datasheet.ciiva.com/851/eng-cd-1775051-a1-851568.pdf?src-supplier=Digi-Key; ComponentLink1Description: https://datasheet.ciiva.com/851/eng-cd-1775051-a1-851568.pdf?src-supplier=Digi-Key
footprint CONN5_1775051-1
pins: 1, 2, 3, 4, 5, 6, 7, 8, 9, 10

## CONN USB TYPE A THT
designator P?  Supplier Part Number 1: ED2989-ND  (hidden comment: CONN USB TYPE A THT)
USB-A1HSW6 CONN USB TYPE A THT; Manufacturer: On-Shore Technology; MF: On Shore; Number of Contacts: 4; Gender: Receptacle; Digi-Key_Purchase_URL: https://www.digikey.com/product-detail/en/on-shore-technology-inc/USB-A1HSW6/ED2989-ND/2677750?utm_source=snapeda&utm_medium=aggregator&utm_campaign=symbol; Package: None; MP: USB-A1HSW6; SnapEDA_Link: https://www.snapeda.com/parts/USB-A1HSW6/On%20Shore%20Technology%20Inc./view-part/13110/?ref=snap; Digi-Key_Part_Number: ED2989-ND; Value: *; Supplier 1: Digi-Key; Manufacturer Part Number: USB-A1HSW6; RoHS: Yes; Category: Connectors; Stock 1: 65108; Pricing 1: 1=0,48000, 10=0,45000, 25=0,40520, 50=0,36000, 100=0,34500, 250=0,31500, 500=0,30000, 1000=0,24750, 2500=0,22500 (USD); Mount: Through Hole,Horizontal; Connector Type: USB; Package Quantity: 120; Packaging: Tray; ComponentLink1URL: https://datasheet.ciiva.com/851/usb-a1hsxx-851712.pdf?src-supplier=Digi-Key; ComponentLink1Description: https://datasheet.ciiva.com/851/usb-a1hsxx-851712.pdf?src-supplier=Digi-Key
footprint *OST_USB-A1HSW6
pins: 1 VBUS (power), 2 D- (io), 3 D+ (io), 4 GND (power)

## CONN-JST-4Pos
designator *
footprint CONN-JST-4Pos
pins: 1, 2, 3, 4

## DRV8848
designator *  Supplier Part Number 1: 296-38514-5-ND
MOTOR DRIVER, H-BRIDGE, HTSSOP-16; Motor Type:H-Bridge; No. of Outputs:2; Output Current:1Arms; Output Voltage:-; Driver Case Style:HTSSOP; No. of Pins:16; Supply Voltage Min:4V; Supply Voltage Max:18V; Operating Temperature Max:85 C;RoHS Compliant: Yes; Manufacturer: Texas Instruments; Manufacturer Part Number: DRV8848PWP; Interface: PWM; Operating Supply Current: 1mA; Drain to Source Resistance: 900mR; Output Current per Channel: 1A; Number of Outputs: 2; Output Current: 2A; Min Supply Voltage: 4V; Max Supply Voltage: 18V; Fault Protection: Over Temperature,Short Circuit; Supplier 1: Digi-Key; RoHS: Yes; Category: Motor Drivers; Stock 1: 845; Pricing 1: 1=2,86000, 10=2,57000, 25=2,43000, 100=1,99800, 250=1,79280, 500=1,72800, 1000=1,43640, 2500=1,38240, 5000=1,33920 (USD); Mount: Surface Mount; Case/Package: HTSSOP EP; Number of Pins: 16; Weight: 0.002212oz; Min Operating Temperature: -40°C; Max Operating Temperature: 85°C; Packaging: Rail/Tube; Package Quantity: 90; Length: 5.1mm; Height: 1.05mm; Width: 4.5mm; Radiation Hardening: No; Lead Free: Lead Free; REACH SVHC: No SVHC; ComponentLink1URL: http://components.arrow.com/part/dataview/72317351S1084591N9193?src-supplier=Arrow; ComponentLink1Description: http://components.arrow.com/part/dataview/72317351S1084591N9193?src-supplier=Arrow; ComponentLink2URL: http://www.ti.com/general/docs/lit/getliterature.tsp?genericPartNumber=DRV8848&&fileType=pdf&src-supplier=Avnet; ComponentLink2Description: http://www.ti.com/general/docs/lit/getliterature.tsp?genericPartNumber=DRV8848&&fileType=pdf&src-supplier=Avnet; ComponentLink3URL: http://www.ti.com/general/docs/lit/getliterature.tsp?genericPartNumber=DRV8848&fileType=pdf&src-supplier=Farnell; ComponentLink3Description: http://www.ti.com/general/docs/lit/getliterature.tsp?genericPartNumber=DRV8848&fileType=pdf&src-supplier=Farnell; ComponentLink4URL: http://www.ti.com/lit/ds/symlink/drv8848.pdf?src-supplier=Digi-Key; ComponentLink4Description: http://www.ti.com/lit/ds/symlink/drv8848.pdf?src-supplier=Digi-Key; ComponentLink5URL: http://www.ti.com/lit/gpn/drv8848?src-supplier=Mouser; ComponentLink5Description: http://www.ti.com/lit/gpn/drv8848?src-supplier=Mouser; ComponentLink6URL: http://www.farnell.com/datasheets/2026444.pdf?src-supplier=Element14; ComponentLink6Description: http://www.farnell.com/datasheets/2026444.pdf?src-supplier=Element14
footprint DRV8848
pins: 1 NSLEEP (in), 2 AOUT1 (out), 3 AISEN (out), 4 AOUT2 (out), 5 BOUT2 (out), 6 BISEN (out), 7 BOUT1 (out), 8 NFAULT (out), 9 BIN1 (in), 10 BIN2 (in), 11 VREF (in), 12 VM (power), 13 GND (power), 14 VINT (in), 15 AIN2 (in), 16 AIN1 (in), 17 GND (power)

## Header 17X2H
designator PORT-A?
Header, 17-Pin, Dual row, Right Angle; LatestRevisionDate: 17-Jul-2002; LatestRevisionNote: Re-released for DXP Platform.; Publisher: Altium Limited
footprint 17x2Header
pins: 1, 2, 3, 4, 5, 6, 7, 8, 9, 10, 11, 12, 13, 14, 15, 16, 17, 18, 19, 20, 21, 22, 23, 24, 25, 26, 27, 28, 29, 30, 31, 32, 33, 34

## ina219
designator U?  Supplier Part Number 1: 296-23770-6-ND
Current-Shunt Monitor 8-Pin SSOP T/R; Manufacturer: Texas Instruments; Manufacturer Part Number: INA219AIDCNR; Accuracy: 1%; Max Supply Voltage: 5.5V; Min Supply Voltage: 3V; Common Mode Rejection Ratio: 100dB; Nominal Supply Current: 700uA; Output Current: 10mA; Input Offset Voltage (Vos): 100uV; Operating Supply Current: 1mA; Number of Amplifiers: 1; Bandwidth: 3.4MHz; Max Supply Current: 5mA; Min Input Voltage: 0uV; Max Input Voltage: 26V; Output Type: Digital; Supplier 1: Digi-Key; RoHS: Yes; Category: Amplifiers - Op Amps, Buffer, Instrumentation; Stock 1: 41912; Pricing 1: 1=2,36000, 10=2,12000, 25=2,00000, 100=1,60000, 250=1,40000, 500=1,36000, 1000=1,08000 (USD); Case/Package: SOT-23-8; Number of Pins: 8; Weight: 0.001411oz; Contact Plating: Gold; Min Operating Temperature: -40°C; Max Operating Temperature: 125°C; Package Quantity: 3000; Packaging: Tape and Reel; Quiescent Current: 700uA; Output Current per Channel: 10mA; Features: I²C; Length: 3mm; Height: 1.3mm; Width: 1.75mm; Radiation Hardening: No; Lead Free: Lead Free; REACH SVHC: No SVHC; ComponentLink1URL: https://datasheet.ciiva.com/15132/getdatasheetpartid-327029-15132621.pdf?src-supplier=Verical; ComponentLink1Description: https://datasheet.ciiva.com/15132/getdatasheetpartid-327029-15132621.pdf?src-supplier=Verical; ComponentLink2URL: https://datasheet.ciiva.com/1939/ina219-1939573.pdf?src-supplier=Digi-Key; ComponentLink2Description: https://datasheet.ciiva.com/1939/ina219-1939573.pdf?src-supplier=Digi-Key; ComponentLink3URL: https://datasheet.ciiva.com/1939/ina219-1939574.pdf?src-supplier=Digi-Key; ComponentLink3Description: https://datasheet.ciiva.com/1939/ina219-1939574.pdf?src-supplier=Digi-Key; ComponentLink4URL: https://datasheet.ciiva.com/1484/1725057-1484939.pdf?src-supplier=Element14; ComponentLink4Description: https://datasheet.ciiva.com/1484/1725057-1484939.pdf?src-supplier=Element14; ComponentLink5URL: https://datasheet.ciiva.com/2965/ina219-2965724.pdf?src-supplier=Avnet; ComponentLink5Description: https://datasheet.ciiva.com/2965/ina219-2965724.pdf?src-supplier=Avnet; ComponentLink6URL: https://datasheet.ciiva.com/1492/ina219-1492467.pdf?src-supplier=Farnell; ComponentLink6Description: https://datasheet.ciiva.com/1492/ina219-1492467.pdf?src-supplier=Farnell; ComponentLink7URL: https://datasheet.ciiva.com/1939/ina219-1939575.pdf?src-supplier=Digi-Key; ComponentLink7Description: https://datasheet.ciiva.com/1939/ina219-1939575.pdf?src-supplier=Digi-Key; ComponentLink8URL: https://datasheet.ciiva.com/22658/1725057-22658890.pdf?src-supplier=Element14; ComponentLink8Description: https://datasheet.ciiva.com/22658/1725057-22658890.pdf?src-supplier=Element14
footprint SOt23-8
pins: 1 Vin+ (in), 2 Vin- (out), 3 GND (power), 4 Vs (power), 5 SCL (io), 6 SDA (io), 7 A0, 8 A1
text: INA219

## INDUCTOR (General)
designator *
pins: 1, 2

## LM324NSR_1
designator U
General Purpose Amplifier 4 Circuit 14-SOP; MF: Texas Instruments; MP: LM324NSR; Value: *; Price: None; Package: SO-14 Texas Instruments; Availability: Unavailable; SnapEDA_Link: https://www.snapeda.com/parts/LM324NSR/Texas%20Instruments/view-part/1807/?ref=snap; DigiKey-Purchase-URL: https://snapeda.com/shop?store=DigiKey&id=1807
footprint LM324NSR
part A pins: 1 1OUT (out), 2 1IN- (in), 3 1IN+ (in), 4 VCC (power), 11 GND (power)
part B pins: 5 2IN+ (in), 6 2IN- (in), 7 2OUT (out)
part C pins: 8 3OUT (out), 9 3IN- (in), 10 3IN+ (in)
part D pins: 12 4IN+ (in), 13 4IN- (in), 14 4OUT (out)

## LM1117IDTX-3.3
designator U?  Supplier Part Number 1: LM1117IDTX-3.3/NOPBCT-ND
LDO VOLTAGE REGULATOR, FULL REEL; Input Voltage Min:-; Input Voltage Max:15V; Output Current:800mA; Dropout Voltage Vdo:1.2V; LDO Regulator Case Style:TO-252; No. of Pins:3; Operating Temperature Min:-40 C; Packaging:Tape & Reel ;RoHS Compliant: Yes; Manufacturer: TI National Semiconductor; MF: Texas Instruments; MP: LM1117IDTX-3.3/NOPB; Output Type: Fixed; Max Input Voltage: 15V; Output Voltage: 3.3V; Number of Outputs: 1; Max Output Current: 800mA; Accuracy: 1%; Polarity: Positive; Quiescent Current: 5mA; Dropout Voltage: 1.2V; Min Input Voltage: 2.6V; SnapEDA_Link: https://www.snapeda.com/parts/LM1117IDTX-3.3/NOPB/Texas%20Instruments/view-part/1040461/?ref=snap; Digi-Key_Part_Number: LM1117IDTX-3.3/NOPBCT-ND; Digi-Key_Purchase_URL: https://www.digikey.com/product-detail/en/texas-instruments/LM1117IDTX-3.3-NOPB/LM1117IDTX-3.3-NOPBCT-ND/3440159?utm_source=snapeda&utm_medium=aggregator&utm_campaign=symbol; Package: TO-252 Texas Instruments; Value: *; Supplier 1: Digi-Key; Manufacturer Part Number: LM1117IDTX-3.3/NOPB; RoHS: Yes; Category: Voltage Regulators - Linear; Stock 1: 20971; Pricing 1: 1=1,44000, 10=1,28300, 25=1,21800, 100=0,93530, 250=0,82652, 500=0,78300, 1000=0,60900 (USD); Mount: Surface Mount; Case/Package: TO-252; Number of Pins: 3; Contact Plating: Tin,Matte; Min Operating Temperature: -40°C; Max Operating Temperature: 125°C; Output Current: 800mA; Packaging: Tape and Reel; Output Voltage Accuracy: 1%; Package Quantity: 2500; Nominal Output Voltage: 3.3V; Number of Regulators: 1; Min Current Limit: 800mA; Radiation Hardening: No; REACH SVHC: No SVHC; Lead Free: Lead Free; ComponentLink1URL: https://datasheet.ciiva.com/41457/001013624-da-01-en-ic-reg-lm1117idtx-3-3-nopb-to-252-3-tid-41457379.pdf?src-supplier=Conrad; ComponentLink1Description: https://datasheet.ciiva.com/41457/001013624-da-01-en-ic-reg-lm1117idtx-3-3-nopb-to-252-3-tid-41457379.pdf?src-supplier=Conrad; ComponentLink2URL: https://datasheet.ciiva.com/6582/lm1117-n-6582648.pdf?src-supplier=Digi-Key; ComponentLink2Description: https://datasheet.ciiva.com/6582/lm1117-n-6582648.pdf?src-supplier=Digi-Key; ComponentLink3URL: https://datasheet.ciiva.com/6582/lm1117-n-6582651.pdf?src-supplier=Digi-Key; ComponentLink3Description: https://datasheet.ciiva.com/6582/lm1117-n-6582651.pdf?src-supplier=Digi-Key; ComponentLink4URL: https://datasheet.ciiva.com/6582/lm1117-n-6582654.pdf?src-supplier=Digi-Key; ComponentLink4Description: https://datasheet.ciiva.com/6582/lm1117-n-6582654.pdf?src-supplier=Digi-Key
footprint *TO228P970X238-3N
pins: 1 ADJ_/_GND (power), 2 VOUT (out), 3 VIN (in)

## LM1117MP-5.0/NOP
designator U?, comment Part Number: LM1117MP-5.0/NOPB  Supplier Part Number 1: LM1117MP-5.0/NOPBCT-ND
Space saving 800-mA low-dropout linear regulator with internal current limit 4-SOT-223 0 to 125; Manufacturer: TI National Semiconductor; Vendor: Texas Instruments; Built_By: EMA_UL_Team; Output Type: Fixed; Accuracy: 1%; Max Output Current: 800mA; Output Voltage: 5V; Number of Outputs: 1; Max Input Voltage: 15V; Polarity: Positive; Quiescent Current: 10mA; Current Rating: 800A; Dropout Voltage: 1.2V; Manufacturer_Part_Number: LM1117MP-5.0/NOPB; Copyright: Copyright (C) 2018 Accelerated Designs. All rights reserved; RefDes: RefDes; Type: DEV; Value: Value; Supplier 1: Digi-Key; Manufacturer Part Number: LM1117MP-5.0/NOPB; RoHS: Yes; Category: Voltage Regulators - Linear; Stock 1: 7698; Pricing 1: 1=1,10000, 10=0,98500, 25=0,93520, 100=0,71810, 250=0,63460, 500=0,60120 (USD); Mount: Surface Mount; Case/Package: SOT-223; Number of Pins: 4; Min Operating Temperature: 0°C; Max Operating Temperature: 125°C; Output Voltage Accuracy: 1%; Output Current: 800mA; Packaging: Tape and Reel; Nominal Output Voltage: 5V; Package Quantity: 1000; Number of Regulators: 1; Min Current Limit: 800mA; Length: 6.5mm; Height: 1.6mm; Width: 3.56mm; Radiation Hardening: No; Lead Free: Lead Free; REACH SVHC: No SVHC; ComponentLink1URL: https://datasheet.ciiva.com/15111/getdatasheetpartid-68363-15111331.pdf?src-supplier=Verical; ComponentLink1Description: https://datasheet.ciiva.com/15111/getdatasheetpartid-68363-15111331.pdf?src-supplier=Verical; ComponentLink2URL: https://datasheet.ciiva.com/6580/lm1117-n-6580053.pdf?src-supplier=Digi-Key; ComponentLink2Description: https://datasheet.ciiva.com/6580/lm1117-n-6580053.pdf?src-supplier=Digi-Key; ComponentLink3URL: https://datasheet.ciiva.com/6580/lm1117-n-6580058.pdf?src-supplier=Digi-Key; ComponentLink3Description: https://datasheet.ciiva.com/6580/lm1117-n-6580058.pdf?src-supplier=Digi-Key; ComponentLink4URL: https://datasheet.ciiva.com/14149/lm1117-eng-tds-14149981.pdf?src-supplier=Distrelec; ComponentLink4Description: https://datasheet.ciiva.com/14149/lm1117-eng-tds-14149981.pdf?src-supplier=Distrelec; ComponentLink5URL: https://datasheet.ciiva.com/25980/lm1117-n-25980317.pdf?src-supplier=Avnet+Europe; ComponentLink5Description: https://datasheet.ciiva.com/25980/lm1117-n-25980317.pdf?src-supplier=Avnet+Europe
footprint MP04A
pins: 1 ADJ/GND, 2 Vout (out), 3 Vin (in), 4 GND (power)

## LM2596S-ADJ
designator U?  Supplier Part Number 1: LM2596S-ADJ/NOPB-ND
SIMPLE SWITCHER® Power Converter 150 KHz 3A Step-Down Voltage Regulator, 5-pin TO-263; Manufacturer: TI National Semiconductor; Manufacturer Part Number: LM2596S-ADJ/NOPB; Number of Outputs: 1; Output Voltage: 37V; Switching Frequency: 173kHz; Min Input Voltage: 4.5V; Max Input Voltage: 40V; Efficiency: 73%; Min Output Voltage: 1.2V; Quiescent Current: 5mA; Supplier 1: Digi-Key; Stock 1: 7136; Pricing 1: 1=5.72, 10=5.141, 100=4.212, 500=3.5856, 1000=3.024 (USD); Mount: Surface Mount; Case/Package: TO-263; Number of Pins: 5; Weight: 0.056128oz; Contact Plating: Tin,Matte; Min Operating Temperature: -40°C; Max Operating Temperature: 125°C; Packaging: Rail/Tube; Max Output Current: 3A; Output Current: 3A; Operating Supply Voltage: 40V; Max Output Voltage: 37V; Length: 10.16mm; Height: 4.57mm; Width: 8.64mm; Radiation Hardening: No; Lead Free: Contains Lead; REACH SVHC: No SVHC; ComponentLink1URL: https://datasheet.ciiva.com/27056/2051160-27056491.pdf; ComponentLink1Description: https://datasheet.ciiva.com/27056/2051160-27056491.pdf; ComponentLink2URL: https://datasheet.ciiva.com/15112/getdatasheetpartid-55559-15112636.pdf; ComponentLink2Description: https://datasheet.ciiva.com/15112/getdatasheetpartid-55559-15112636.pdf; ComponentLink3URL: https://datasheet.ciiva.com/41457/001013814-da-01-en-ic-reg-buc-lm2596s-adj-nopb-to-263-5-tid-41457756.pdf; ComponentLink3Description: https://datasheet.ciiva.com/41457/001013814-da-01-en-ic-reg-buc-lm2596s-adj-nopb-to-263-5-tid-41457756.pdf; ComponentLink4URL: https://datasheet.ciiva.com/6596/lm2596-6596342.pdf; ComponentLink4Description: https://datasheet.ciiva.com/6596/lm2596-6596342.pdf; ComponentLink5URL: https://datasheet.ciiva.com/22669/1874590-22669464.pdf; ComponentLink5Description: https://datasheet.ciiva.com/22669/1874590-22669464.pdf; ComponentLink6URL: https://datasheet.ciiva.com/14150/jqlm2596x-xx-e-14150653.pdf; ComponentLink6Description: https://datasheet.ciiva.com/14150/jqlm2596x-xx-e-14150653.pdf
footprint LM2596 (http://www.ti.com/product/LM2596/description)
pins: 1 VIN (power), 2 OUT (power), 3 GND (power), 4 FB (in), 5 ~{ON}/OFF (in), 6 TAB (power)